# Altium schematic symbol library mechanical.SchLib: 3 symbols
Pins are listed as number, name and electrical type; pins without a type are passive.

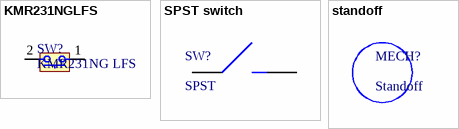
[diagram p0: symbols KMR231NGLFS to standoff]

## KMR231NGLFS
designator SW?, comment KMR231NG LFS
Tactile Switch SPST-NO Top Actuated Surface Mount; Octopart URL: http://octopart.com/kmr231nglfs-c%26k+components-7316299; Packaging: Tape & Reel (TR); Mounting Style: Surface Mount; RoHS: Compliant; OctopartID: ffd536b079f82012; Manufacturer Part Number: KMR231NGLFS
footprint KMR231NG LFS
pins: 1, 2

## SPST switch
designator SW?, comment SPST
SPST Switch
footprint PINHEAD127_1x2
footprint PINHEAD254_1x2
pins: 1, 2

## standoff
designator MECH?, comment Standoff